# Altium schematic symbol library SPV1050TTR.SchLib: 1 symbol
Pins are listed as number, name and electrical type; pins without a type are passive.

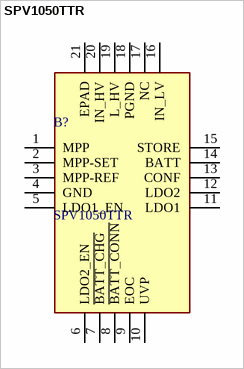
[diagram p0: symbol SPV1050TTR]

## SPV1050TTR
designator B?
STMICROELECTRONICS - SPV1050TTR - BATT CHARGER, LITHIUM, 0.07A, VFQFPN-20; Geometry.Height: 1mm; Mouser Part Number: 511-SPV1050TTR; Mouser Price/Stock: https://www.mouser.co.uk/ProductDetail/STMicroelectronics/SPV1050TTR?qs=4b8myOmUP%252BtjnNFr7g4Yxw%3D%3D; Manufacturer_Name: STMicroelectronics; Manufacturer_Part_Number: SPV1050TTR; Datasheet Link: https://www.st.com/resource/en/datasheet/spv1050.pdf
footprint QFN40P300X300X100-21N-D
pins: 1 MPP, 2 MPP-SET, 3 MPP-REF, 4 GND, 5 LDO1_EN, 6 LDO2_EN, 7 ~{BATT_CHG}, 8 ~{BATT_CONN}, 9 EOC, 10 UVP, 11 LDO1, 12 LDO2, 13 CONF, 14 BATT, 15 STORE, 16 IN_LV, 17 NC, 18 PGND, 19 L_HV, 20 IN_HV, 21 EPAD